# EAGLE library part TRIODE_9A (library wheat)
TRIODE, BASE 9A 12AU7, 12AX7, ETC.
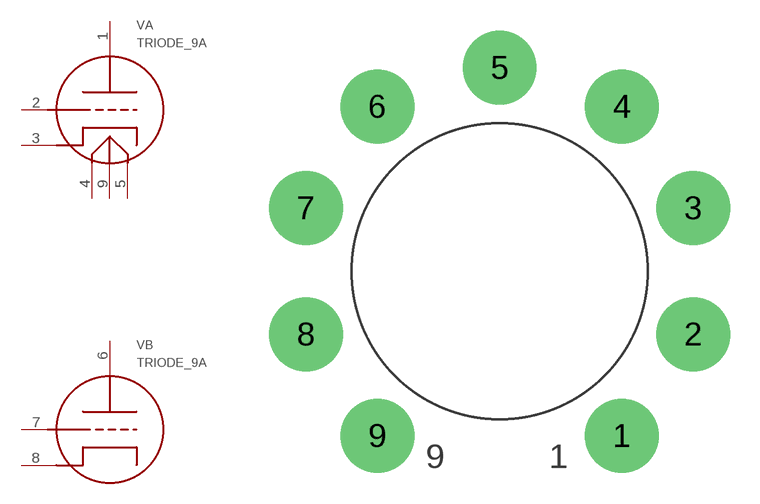
[diagram p4: symbol with the pads of NOVAL_PCB; footprint NOVAL_PCB]

Designator prefix V; gates A=TRIODE_9A_A B=TRIODE_9A_B

## TRIODE_9A  [NOVAL_PCB]
1  A:1  pas
2  A:2  pas
3  A:3  pas
4  A:4  pas
5  A:5  pas
6  B:6  pas
7  B:7  pas
8  B:8  pas
9  A:9  pas

## TRIODE_9ABACKSIDE  [NOVAL_PCB]
1  A:9  pas
2  B:8  pas
3  B:7  pas
4  B:6  pas
5  A:5  pas
6  A:4  pas
7  A:3  pas
8  A:2  pas
9  A:1  pas

## Footprint NOVAL_PCB (pad centres in mm)
TUBE SOCKET, NOVAL PCB
drill 1.93 pad 3.81: 1 6.299,-8.484; 2 9.982,-3.251; 3 9.982,3.251; 4 6.299,8.484; 5 0,10.49; 6 -6.299,8.484; 7 -9.982,3.251; 8 -9.982,-3.251; 9 -6.299,-8.484